# Altium footprint library S722145R.PcbLib: 1 footprints
Each footprint in its own frame and in the unit in brackets; x right, y up, seen from the top. Pads: shape width x height; smd on the part's side, far side on the other; paste and mask are expansions set on the pad; w line width, h text height; cw(c..) or ccw(c..) is an arc to the next point about the centre after c.
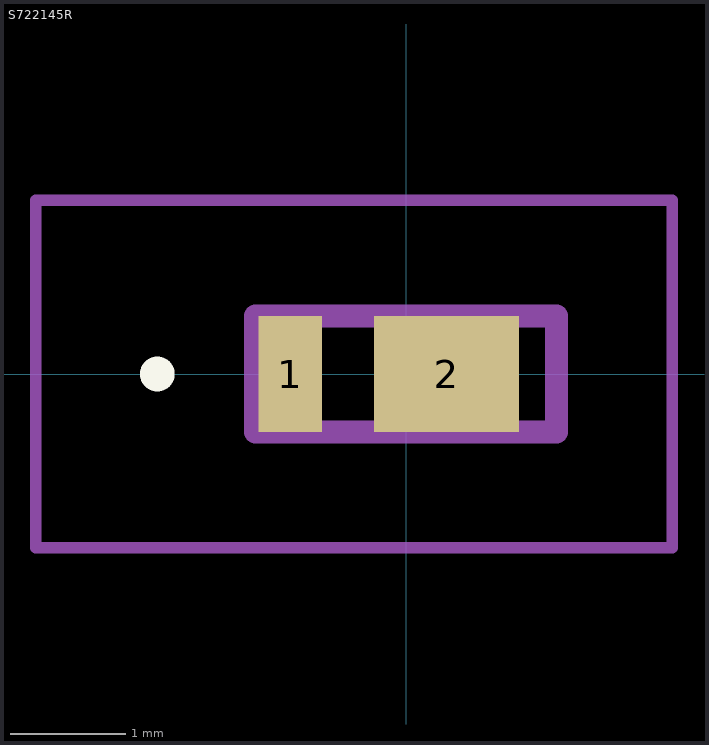
[diagram p0: the footprint, top view; thin cyan lines are the x and y axes]

## S722145R [mm]
pads (2):
  rect 0.55x1 smd: 1(-1,0)
  rect 1.25x1 smd: 2(0.35,0)
Top Overlay:
  lines w0.2: -2.2,0 -2.2,0 ; -2.2,0 ccw(c-2.15,0) -2.1,0 ; -2.2,0 cw(c-2.15,0) -2.1,0 ; -2.2,0 -2.2,0 ; -2.2,0 ccw(c-2.15,0) -2.1,0 ; -2.1,0 -2.1,0
Mechanical 15:
  lines w0.2: -1.3,-0.5 1.3,-0.5 1.3,0.5 -1.3,0.5 -1.3,-0.5
Mechanical 20:
  lines w0.1: -3.2,-1.5 2.3,-1.5 2.3,1.5 -3.2,1.5 -3.2,-1.5